# EAGLE library part 0606_RGB_LED (library lil_rgb)
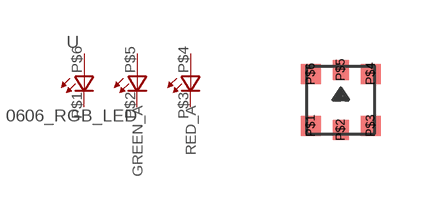
[diagram p5: symbol with the pads of 0606_LED; footprint 0606_LED]

Designator prefix -

## 0606_RGB_LED  [0606_LED]
P$1  C_BLUE  pas
P$2  C_GREEN  pas
P$3  C_RED  pas
P$4  RED_A
P$5  GREEN_A
P$6  BLUE_A  pas

## Footprint 0606_LED (pad centres in mm)
smd 0.5 x 0.5: P$1 -0.75,-0.65; P$3 0.75,-0.65; P$4 0.75,0.65; P$6 -0.75,0.65
smd 0.4 x 0.5: P$2 0,-0.75; P$5 0,0.75